# EAGLE library part TPS72012DRVR (library TPS72012DRVR)
350mA, Ultra-Low VIN, RF Low-Dropout Linear Regulator with Bias Pin
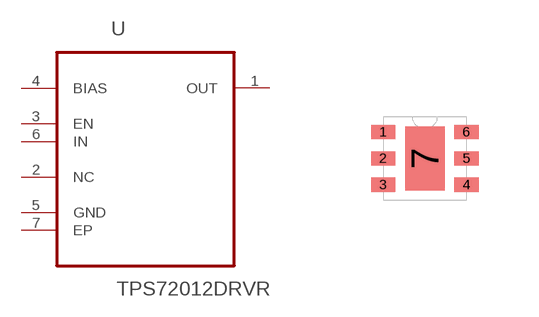
[diagram p0: symbol with the pads of SON65P200X200X80-7N; footprint SON65P200X200X80-7N]

Designator prefix U

## TPS72012DRVR (Availability: Unavailable; Description: 350mA, Ultra-Low VIN, RF Low-Dropout Linear Regulator with Bias Pin 6-WSON -40 to 125; MF: Texas Instruments; MP: TPS72012DRVR; Package: SON-6 Texas Instruments; Price: None)  [SON65P200X200X80-7N]
1  OUT  out
2  NC  nc
3  EN  in
4  BIAS  pwr
5  GND  pas
6  IN  in
7  EP  pas

## Footprint SON65P200X200X80-7N (pad centres in mm)
smd 0.61 x 0.356: 1 -1.041,0.66; 2 -1.041,0; 3 -1.041,-0.66; 4 1.041,-0.66; 5 1.041,0; 6 1.041,0.66
smd 0.991 x 1.6: 7 0,0